# Altium footprint library VNA.PCBLIB: 50 footprints (part 3 of 4)
Each footprint in its own frame and in the unit in brackets; x right, y up, seen from the top. Pads: shape width x height; smd on the part's side, far side on the other; paste and mask are expansions set on the pad; w line width, h text height; cw(c..) or ccw(c..) is an arc to the next point about the centre after c.
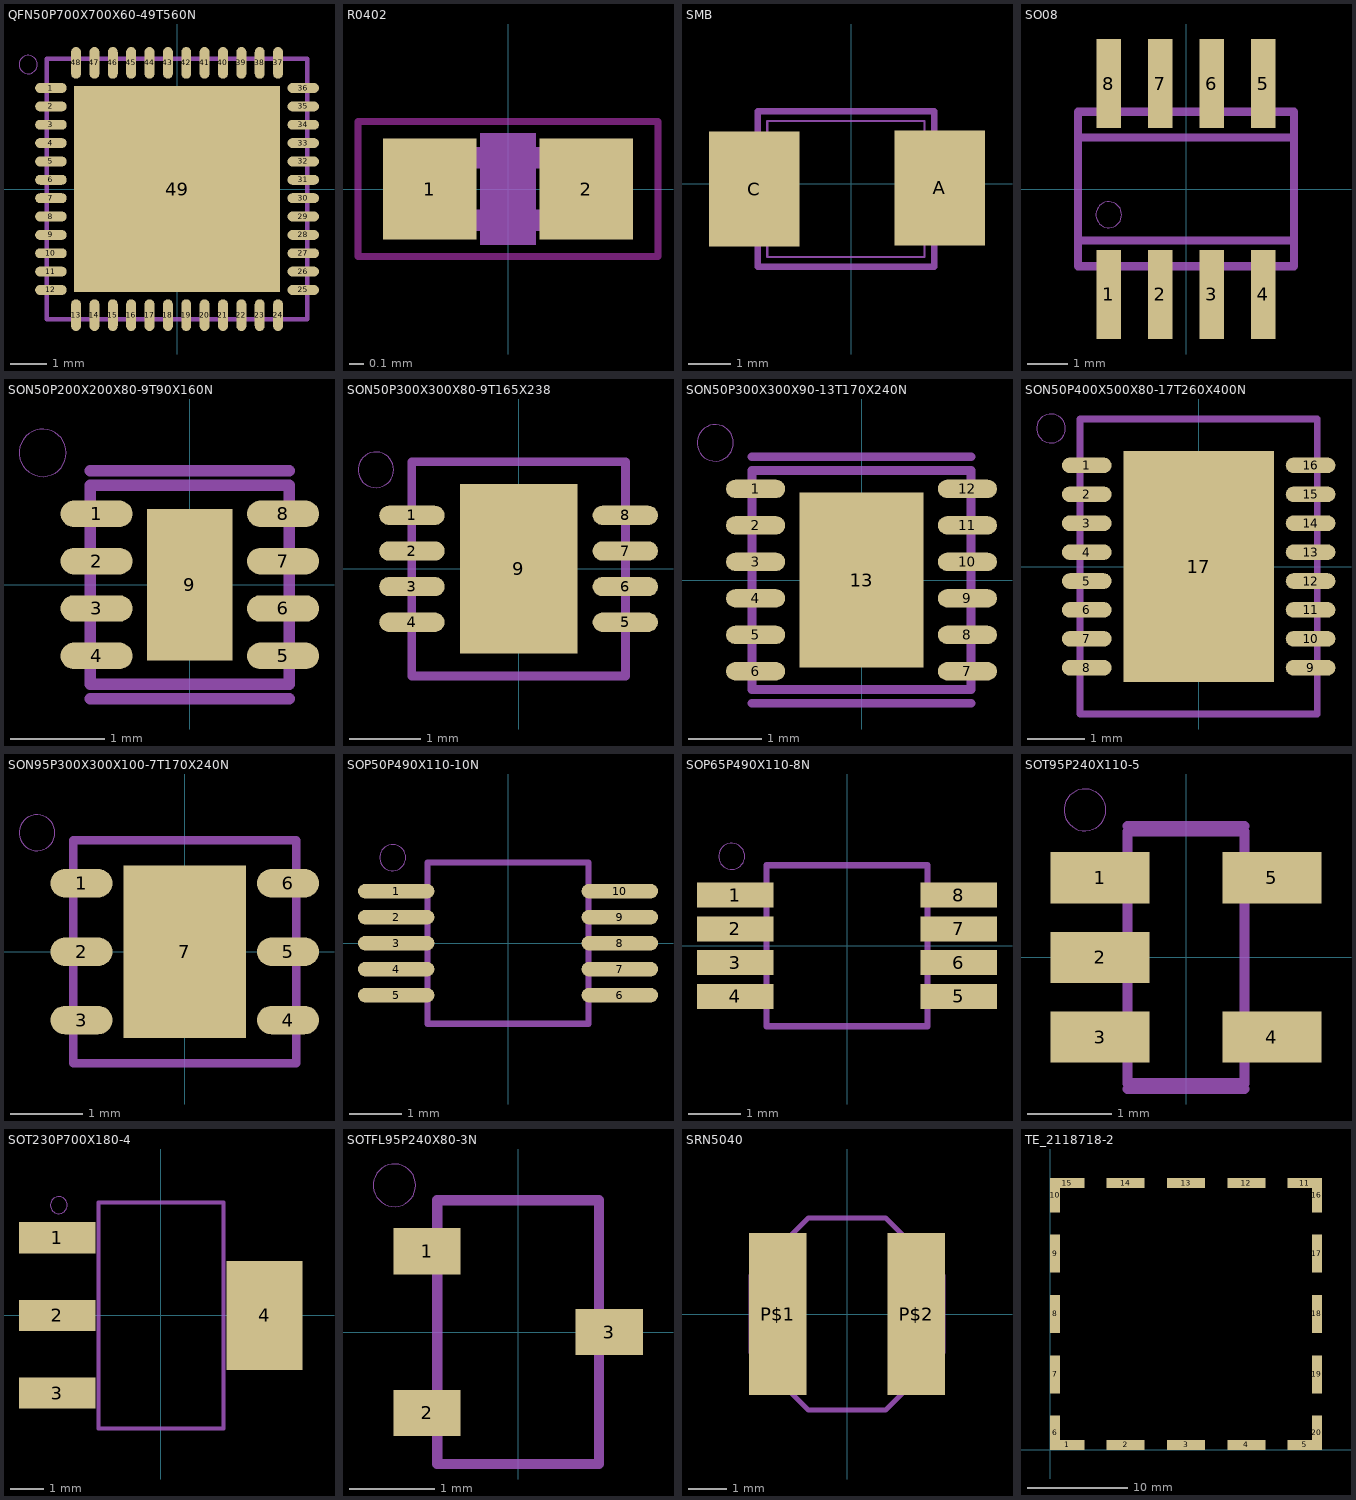
[diagram p2: the footprints below, top view; thin cyan lines are the x and y axes]

## QFN50P700X700X60-49T560N [mm]
pads (49):
  rrect100% 0.86x0.27 smd: 1(-3.435,2.75) 2(-3.435,2.25) 3(-3.435,1.75) 4(-3.435,1.25) 5(-3.435,0.75) 6(-3.435,0.25) 7(-3.435,-0.25) 8(-3.435,-0.75) 9(-3.435,-1.25) 10(-3.435,-1.75) 11(-3.435,-2.25) 12(-3.435,-2.75) 25(3.435,-2.75) 26(3.435,-2.25) 27(3.435,-1.75) 28(3.435,-1.25) 29(3.435,-0.75) 30(3.435,-0.25) 31(3.435,0.25) 32(3.435,0.75) 33(3.435,1.25) 34(3.435,1.75) 35(3.435,2.25) 36(3.435,2.75)
  rrect100% 0.27x0.86 smd: 13(-2.75,-3.435) 14(-2.25,-3.435) 15(-1.75,-3.435) 16(-1.25,-3.435) 17(-0.75,-3.435) 18(-0.25,-3.435) 19(0.25,-3.435) 20(0.75,-3.435) 21(1.25,-3.435) 22(1.75,-3.435) 23(2.25,-3.435) 24(2.75,-3.435) 37(2.75,3.435) 38(2.25,3.435) 39(1.75,3.435) 40(1.25,3.435) 41(0.75,3.435) 42(0.25,3.435) 43(-0.25,3.435) 44(-0.75,3.435) 45(-1.25,3.435) 46(-1.75,3.435) 47(-2.25,3.435) 48(-2.75,3.435)
  rect 5.6x5.6 smd: 49(0,0)
tDocu:
  lines w0.12: -3.55,-3.55 3.55,-3.55 3.55,3.55 -3.55,3.55 -3.55,-3.55
tPlace:
  circle w0: c-4.054,3.389 r0.25
  lines w0.12: -3.55,-3.139 -3.55,-3.55 -3.139,-3.55 ; -3.55,3.139 -3.55,3.55 -3.139,3.55 ; 3.139,-3.55 3.55,-3.55 3.55,-3.139 ; 3.139,3.55 3.55,3.55 3.55,3.139

## R0402 [mm]
pads (2):
  rect 0.67x0.72 smd: 1(-0.56,0) 2(0.56,0)
Top keep-out:
  lines w0.051: -1.073,-0.483 1.073,-0.483 1.073,0.483 -1.073,0.483 -1.073,-0.483
tDocu:
  region: -0.554,-0.305 -0.554,0.295 -0.254,0.295 -0.254,-0.305
  region: 0.259,-0.305 0.259,0.295 0.559,0.295 0.559,-0.305
  lines w0.152: -0.245,-0.224 0.245,-0.224 ; -0.245,0.224 0.245,0.224
tGlue:
  region: -0.2,-0.4 -0.2,0.4 0.2,0.4 0.2,-0.4

## SMB [mil]
pads (2):
  rect 85x108 smd: A(83,-4) C(-91,-5)
tDocu:
  region: 80,-45 80,35 103,35 103,-45
  region: -113,-45 -113,35 -90,35 -90,-45
  lines w2: -79,-62 -79,-31 ; -79,21 -79,52 ; 69,-60 69,52
  lines w6: -89,-32 ccw(c-89,-5) -89,22 ; -88,-61 -88,-32 ; -88,22 -88,51 ; 78,-61 78,53
tPlace:
  lines w2: -79,-60 -79,-69 69,-69 69,-59 ; -79,50 -79,59 69,59 69,51
  lines w6: -88,-61 -88,-78 78,-78 78,-60 ; -88,51 -88,68 78,68 78,52

## SO08 [mm]
pads (8):
  rect 0.6x2.2 smd: 1(-1.905,-2.6) 2(-0.635,-2.6) 3(0.635,-2.6) 4(1.905,-2.6) 5(1.905,2.6) 6(0.635,2.6) 7(-0.635,2.6) 8(-1.905,2.6)
tDocu:
  region: -2.15,-3.1 -2.15,-2 -1.66,-2 -1.66,-3.1
  region: -0.88,-3.1 -0.88,-2 -0.39,-2 -0.39,-3.1
  region: 0.39,-3.1 0.39,-2 0.88,-2 0.88,-3.1
  region: 1.66,-3.1 1.66,-2 2.15,-2 2.15,-3.1
  region: 1.66,2 1.66,3.1 2.15,3.1 2.15,2
  region: 0.39,2 0.39,3.1 0.88,3.1 0.88,2
  region: -0.88,2 -0.88,3.1 -0.39,3.1 -0.39,2
  region: -2.15,2 -2.15,3.1 -1.66,3.1 -1.66,2
  lines w0.203: -2.667,-1.905 2.667,-1.905 2.667,1.905 -2.667,1.905 -2.667,-1.905
tPlace:
  circle w0: c-1.905,-0.635 r0.318
  lines w0.203: -2.667,-1.27 2.667,-1.27 2.667,1.27 -2.667,1.27 -2.667,-1.27

## SON50P200X200X80-9T90X160N [mm]
pads (9):
  rrect100% 0.76x0.279 smd: 1(-0.985,0.75) 2(-0.985,0.25) 3(-0.985,-0.25) 4(-0.985,-0.75) 5(0.985,-0.75) 6(0.985,-0.25) 7(0.985,0.25) 8(0.985,0.75)
  rect 0.9x1.6 smd: 9(0,0)
tDocu:
  lines w0.12: -1.05,-1.05 1.05,-1.05 1.05,1.05 -1.05,1.05 -1.05,-1.05
tPlace:
  circle w0: c-1.554,1.394 r0.25
  lines w0.12: -1.05,-1.204 1.05,-1.204 ; -1.05,1.204 1.05,1.204

## SON50P300X300X80-9T165X238 [mm]
pads (9):
  rrect100% 0.917x0.27 smd: 1(-1.497,0.75) 2(-1.497,0.25) 3(-1.497,-0.25) 4(-1.497,-0.75) 5(1.497,-0.75) 6(1.497,-0.25) 7(1.497,0.25) 8(1.497,0.75)
  rect 1.65x2.38 smd: 9(0,0)
tDocu:
  lines w0.12: -1.5,-1.5 1.5,-1.5 1.5,1.5 -1.5,1.5 -1.5,-1.5
tPlace:
  circle w0: c-2.004,1.389 r0.25
  lines w0.12: -1.5,-1.139 -1.5,-1.504 1.5,-1.504 1.5,-1.139 ; -1.5,1.139 -1.5,1.504 1.5,1.504 1.5,1.139

## SON50P300X300X90-13T170X240N [mm]
pads (13):
  rrect100% 0.811x0.25 smd: 1(-1.451,1.25) 2(-1.451,0.75) 3(-1.451,0.25) 4(-1.451,-0.25) 5(-1.451,-0.75) 6(-1.451,-1.25) 7(1.451,-1.25) 8(1.451,-0.75) 9(1.451,-0.25) 10(1.451,0.25) 11(1.451,0.75) 12(1.451,1.25)
  rect 1.7x2.4 smd: 13(0,0)
tDocu:
  lines w0.12: -1.5,-1.5 1.5,-1.5 1.5,1.5 -1.5,1.5 -1.5,-1.5
tPlace:
  circle w0: c-2.004,1.879 r0.25
  lines w0.12: -1.5,-1.689 1.5,-1.689 ; -1.5,1.689 1.5,1.689

## SON50P400X500X80-17T260X400N [mm]
pads (17):
  rrect100% 0.86x0.27 smd: 1(-1.935,1.75) 2(-1.935,1.25) 3(-1.935,0.75) 4(-1.935,0.25) 5(-1.935,-0.25) 6(-1.935,-0.75) 7(-1.935,-1.25) 8(-1.935,-1.75) 9(1.935,-1.75) 10(1.935,-1.25) 11(1.935,-0.75) 12(1.935,-0.25) 13(1.935,0.25) 14(1.935,0.75) 15(1.935,1.25) 16(1.935,1.75)
  rect 2.6x4 smd: 17(0,0)
tDocu:
  lines w0.12: -2.05,-2.55 2.05,-2.55 2.05,2.55 -2.05,2.55 -2.05,-2.55
tPlace:
  circle w0: c-2.554,2.389 r0.25
  lines w0.12: -2.05,-2.139 -2.05,-2.55 2.05,-2.55 2.05,-2.139 ; -2.05,2.139 -2.05,2.55 2.05,2.55 2.05,2.139

## SON95P300X300X100-7T170X240N [mm]
pads (7):
  rrect100% 0.86x0.397 smd: 1(-1.435,0.95) 2(-1.435,0) 3(-1.435,-0.95) 4(1.435,-0.95) 5(1.435,0) 6(1.435,0.95)
  rect 1.7x2.4 smd: 7(0,0)
tDocu:
  lines w0.12: -1.55,-1.55 1.55,-1.55 1.55,1.55 -1.55,1.55 -1.55,-1.55
tPlace:
  circle w0: c-2.054,1.653 r0.25
  lines w0.12: -1.55,-1.402 -1.55,-1.55 1.55,-1.55 1.55,-1.402 ; -1.55,1.402 -1.55,1.55 1.55,1.55 1.55,1.402

## SOP50P490X110-10N [mm]
pads (10):
  rrect100% 1.471x0.28 smd: 1(-2.15,1) 2(-2.15,0.5) 3(-2.15,0) 4(-2.15,-0.5) 5(-2.15,-1) 6(2.15,-1) 7(2.15,-0.5) 8(2.15,0) 9(2.15,0.5) 10(2.15,1)
tDocu:
  lines w0.12: -1.55,-1.55 1.55,-1.55 1.55,1.55 -1.55,1.55 -1.55,-1.55
tPlace:
  circle w0: c-2.217,1.644 r0.25
  lines w0.12: -1.55,-1.394 -1.55,-1.55 1.55,-1.55 1.55,-1.394 ; -1.55,1.394 -1.55,1.55 1.55,1.55 1.55,1.394

## SOP65P490X110-8N [mm]
pads (8):
  rect 1.471x0.482 smd: 1(-2.15,0.975) 2(-2.15,0.325) 3(-2.15,-0.325) 4(-2.15,-0.975) 5(2.15,-0.975) 6(2.15,-0.325) 7(2.15,0.325) 8(2.15,0.975)
tDocu:
  lines w0.12: -1.55,-1.55 1.55,-1.55 1.55,1.55 -1.55,1.55 -1.55,-1.55
tPlace:
  circle w0: c-2.217,1.72 r0.25
  lines w0.12: -1.55,-1.47 -1.55,-1.55 1.55,-1.55 1.55,-1.47 ; -1.55,1.47 -1.55,1.55 1.55,1.55 1.55,1.47

## SOT95P240X110-5 [mm]
pads (5):
  rect 1.18x0.609 smd: 1(-1.024,0.95) 2(-1.024,0) 3(-1.024,-0.95) 4(1.024,-0.95) 5(1.024,0.95)
tDocu:
  lines w0.12: -0.7,-1.5 0.7,-1.5 0.7,1.5 -0.7,1.5 -0.7,-1.5
tPlace:
  circle w0: c-1.204,1.759 r0.25
  lines w0.12: -0.7,-1.569 0.7,-1.569 ; -0.7,1.569 0.7,1.569

## SOT230P700X180-4 [mm]
pads (4):
  rect 2.265x0.929 smd: 1(-3.073,2.3) 2(-3.073,0) 3(-3.073,-2.3)
  rect 2.265x3.229 smd: 4(3.073,0)
tDocu:
  lines w0.12: -1.85,-3.35 1.85,-3.35 1.85,3.35 -1.85,3.35 -1.85,-3.35
tPlace:
  circle w0: c-3.028,3.269 r0.25
  lines w0.12: -1.85,-3.019 -1.85,-3.35 1.85,-3.35 1.85,-1.869 ; -1.85,3.019 -1.85,3.35 1.85,3.35 1.85,1.869

## SOTFL95P240X80-3N [mm]
pads (3):
  rect 0.788x0.542 smd: 1(-1.07,0.95) 2(-1.07,-0.95) 3(1.07,0)
tDocu:
  lines w0.12: -0.95,-1.55 0.95,-1.55 0.95,1.55 -0.95,1.55 -0.95,-1.55
tPlace:
  circle w0: c-1.454,1.725 r0.25
  lines w0.12: -0.95,-1.475 -0.95,-1.55 0.95,-1.55 0.95,-1.475 ; -0.95,1.475 -0.95,1.55 0.95,1.55 0.95,1.475

## SRN5040 [mm]
pads (2):
  rect 1.5x4.2 smd: P$1(-1.8,0) P$2(1.8,0)
tPlace:
  lines w0.127: -2.5,-1 -1,-2.5 1,-2.5 2.5,-1 2.5,1 1,2.5 -1,2.5 -2.5,1 -2.5,-1

## TE_2118718-2 [mm]
pads (20):
  rect 3.4x1 smd: 1(1.7,0.5) 5(25.3,0.5) 11(25.3,26.5) 15(1.7,26.5)
  rect 3.8x1 smd: 2(7.5,0.5) 3(13.5,0.5) 4(19.5,0.5) 12(19.5,26.5) 13(13.5,26.5) 14(7.5,26.5)
  rect 1x3.4 smd: 6(0.5,1.7) 10(0.5,25.3) 16(26.5,25.3) 20(26.5,1.7)
  rect 1x3.8 smd: 7(0.5,7.5) 8(0.5,13.5) 9(0.5,19.5) 17(26.5,19.5) 18(26.5,13.5) 19(26.5,7.5)